# Altium footprint library CustomTrafo.PcbLib: 1 footprints
Each footprint in its own frame and in the unit in brackets; x right, y up, seen from the top. Pads: shape width x height; smd on the part's side, far side on the other; paste and mask are expansions set on the pad; w line width, h text height; cw(c..) or ccw(c..) is an arc to the next point about the centre after c.
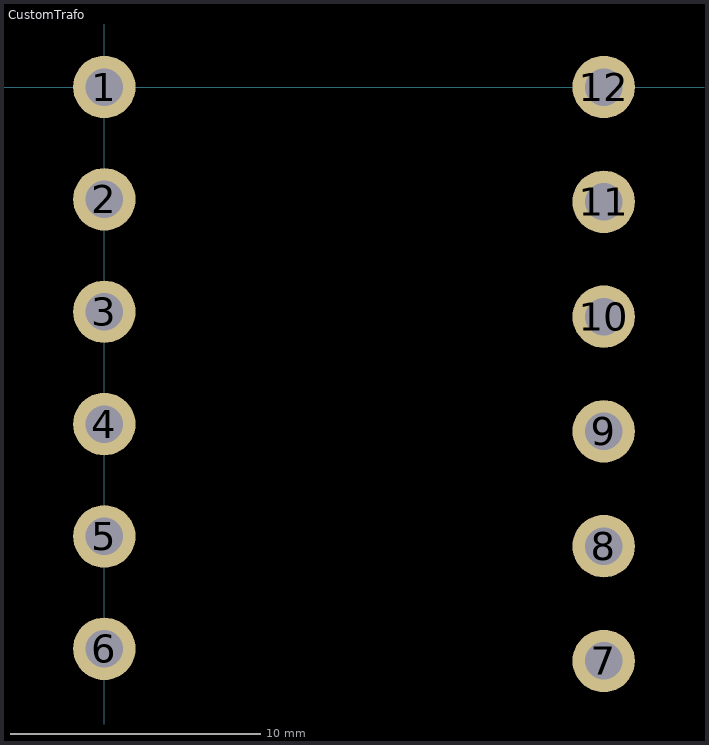
[diagram p0: the footprint, top view; thin cyan lines are the x and y axes]

## CustomTrafo [mm]
pads (12):
  round 2.5 hole 1.5: 1(0,0) 2(0,-4.5) 3(0,-9) 4(0,-13.5) 5(0,-18) 6(0,-22.5) 7(20,-22.987) 8(20,-18.39) 9(20,-13.792) 10(20,-9.195) 11(20,-4.597) 12(20,0)